# Altium schematic symbol library switch-toggle.SchLib: 1 symbol
Pins are listed as number, name and electrical type; pins without a type are passive.

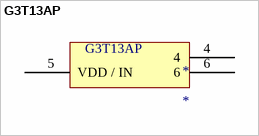
[diagram p0: symbol G3T13AP]

## G3T13AP
designator *
footprint G3T13AP
pins: 4 (power), 5 VDD / IN (power), 6 (power)